# Altium integrated library LT1117IST-5_PBF.IntLib: 1 symbol
Pins are listed as number, name and electrical type; pins without a type are passive.

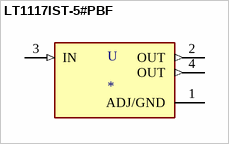
[diagram p0: symbol LT1117IST-5#PBF]

## LT1117IST-5#PBF
designator U
LDO Regulator Pos 5V 0.8A Automotive 4-Pin_3+Tab_ SOT-223 Tube; MP: LT1117IST-5#PBF; MF: Analog Devices; Value: *; Availability: Unavailable; Price: None; Package: SOT-223-3 Analog Devices; SnapEDA_Link: https://www.snapeda.com/parts/LT1117IST-5%23PBF/Analog%20Devices/view-part/4348177/?ref=snap
footprint REG_LT1117IST-5#PBF
pins: 1 ADJ/GND (power), 2 OUT (out), 3 IN (in), 4 OUT (out)